# Altium schematic symbol library Pot.SchLib: 1 symbol
Pins are listed as number, name and electrical type; pins without a type are passive.

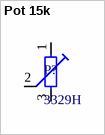
[diagram p0: symbol Pot 15k]

## Pot 15k
designator P?, comment 3329H
Potentiometr 15k 0.5W; Part Number: M64X203KB40; Manufacturer: Vishay; ComponentLink2Description: Datasheet; ComponentLink2URL: https://static.chipdip.ru/lib/250/DOC000250619.pdf; Type: Potentiometer
footprint 3329H
pins: 1, 2, 3